# Altium schematic symbol library SN74LVCG207.Schlib: 1 symbol
Pins are listed as number, name and electrical type; pins without a type are passive.

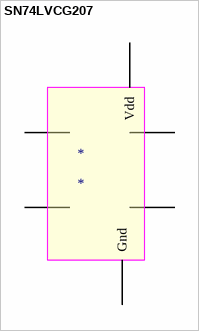
[diagram p0: symbol SN74LVCG207]

## SN74LVCG207
designator *
pins: 1 1A, 2 Gnd, 3 2A, 4 2Y, 5 Vdd, 6 1Y